# EAGLE library part SBH11-PBPC-D05 (library con-sullins)
HEADER - Vertical, Shrouded
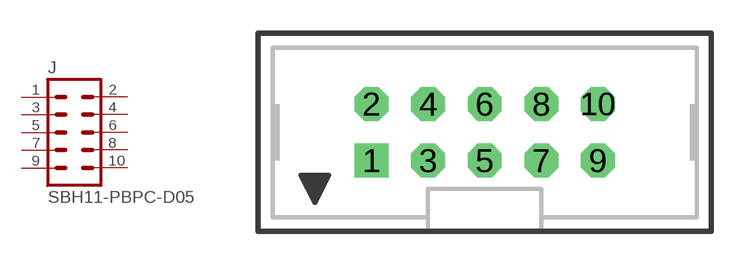
[diagram p39: symbol with the pads of SBH11-PBPC-D05; footprint SBH11-PBPC-D05]

Designator prefix J

## SBH11-PBPC-D05  [SBH11-PBPC-D05]
1  1  pas
2  2  pas
3  3  pas
4  4  pas
5  5  pas
6  6  pas
7  7  pas
8  8  pas
9  9  pas
10  10  pas

## Footprint SBH11-PBPC-D05 (pad centres in mm)
HEADER - 0.1", Shrouded, Vertical
drill 1.016 square: 1 -5.08,-1.27
drill 1.016 octagon: 2 -5.08,1.27; 3 -2.54,-1.27; 4 -2.54,1.27; 5 0,-1.27; 6 0,1.27; 7 2.54,-1.27; 8 2.54,1.27; 9 5.08,-1.27; 10 5.08,1.27